# EAGLE library part 74HC4052 (library ncue_ee)
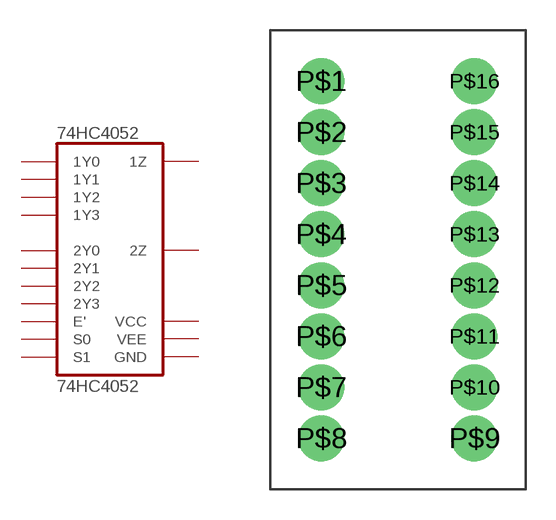
[diagram p14: symbol with the pads of DIP16; footprint DIP16]

Designator prefix 74HC4052

## 74HC4052  [DIP16]
P$1  2Y0
P$2  2Y2
P$3  2Z
P$4  2Y3
P$5  2Y1
P$6  E'  in
P$7  VEE
P$8  GND
P$9  S1  in
P$10  S0  in
P$11  1Y3
P$12  1Y0
P$13  1Z
P$14  1Y1
P$15  1Y2
P$16  VCC

## Footprint DIP16 (pad centres in mm)
drill 1.016 pad 2.286: P$1 0,0; P$2 0,-2.54; P$3 0,-5.08; P$4 0,-7.62; P$5 0,-10.16; P$6 0,-12.7; P$7 0,-15.24; P$8 0,-17.78; P$9 7.62,-17.78; P$10 7.62,-15.24; P$11 7.62,-12.7; P$12 7.62,-10.16; P$13 7.62,-7.62; P$14 7.62,-5.08; P$15 7.62,-2.54; P$16 7.62,0